# Altium footprint library LED_Shield_PCB_v11.PcbLib: 4 footprints
Each footprint in its own frame and in the unit in brackets; x right, y up, seen from the top. Pads: shape width x height; smd on the part's side, far side on the other; paste and mask are expansions set on the pad; w line width, h text height; cw(c..) or ccw(c..) is an arc to the next point about the centre after c.
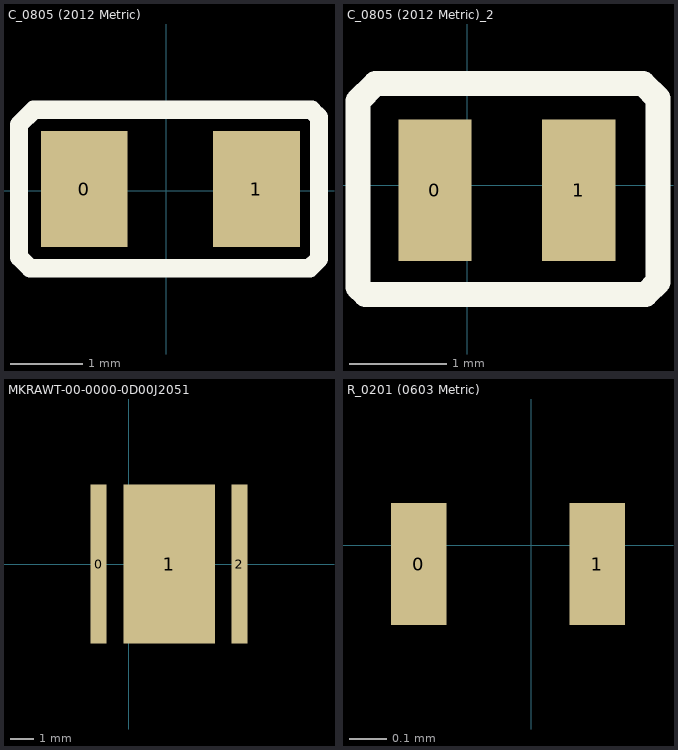
[diagram p0: the footprints below, top view; thin cyan lines are the x and y axes]

## C_0805 (2012 Metric) [mm]
pads (2):
  rect 1.2x1.6 smd: 0(-1.131,0.025) 1(1.245,0.025)
Top Overlay:
  lines w0.254: -2.032,-0.914 -1.88,-1.067 1.981,-1.067 2.108,-0.94 2.108,1.016 2.007,1.118 -1.829,1.118 -2.032,0.914 -2.032,-0.914

## C_0805 (2012 Metric)_2 [mm]
pads (2):
  rect 0.75x1.45 smd: 0(-0.33,-0.051) 1(1.143,-0.051)
Top Overlay:
  lines w0.254: -1.118,-1.041 -1.041,-1.118 1.829,-1.118 1.956,-0.991 1.956,0.889 1.803,1.041 -0.94,1.041 -1.118,0.864 -1.118,-1.041

## MKRAWT-00-0000-0D00J2051 [mm]
pads (3):
  rect 0.7x6.76 smd: 0(-1.295,0) 2(4.699,0)
  rect 3.9x6.76 smd: 1(1.714,0)

## R_0201 (0603 Metric) [mm]
pads (2):
  rect 0.15x0.33 smd: 0(-0.305,-0.051) 1(0.178,-0.051)